# EAGLE library part 12POS_FFC_SMD_HEADER (library hmcfabstudio)
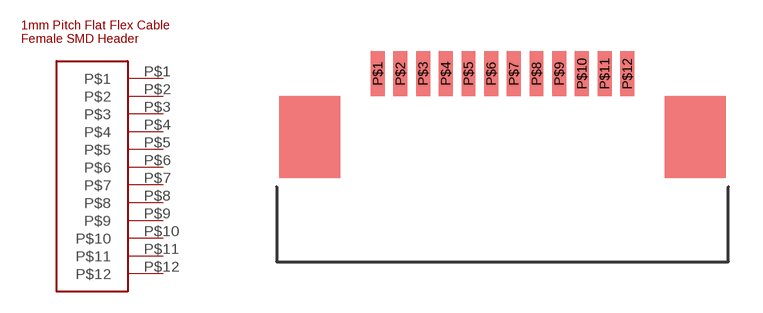
[diagram p19: symbol with the pads of 11P_FFC_1MM; footprint 11P_FFC_1MM]

Designator prefix -

## 12POS_FFC_SMD_HEADER  [11P_FFC_1MM]
P$1  P$1
P$2  P$2
P$3  P$3
P$4  P$4
P$5  P$5
P$6  P$6
P$7  P$7
P$8  P$8
P$9  P$9
P$10  P$10
P$11  P$11
P$12  P$12

## Footprint 11P_FFC_1MM (pad centres in mm)
smd 0.61 x 2: P$1 0,0; P$2 1,0; P$3 2,0; P$4 3,0; P$5 4,0; P$6 5,0; P$7 6,0; P$8 7,0; P$9 8,0; P$10 9,0; P$11 10,0; P$12 11,0